# Altium schematic symbol library LM337.SchLib: 1 symbol
Pins are listed as number, name and electrical type; pins without a type are passive.

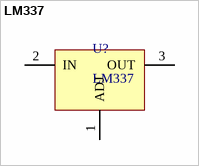
[diagram p0: symbol LM337]

## LM337
designator U?
Linear adjustable voltage/current regulator 1,5 A, 40 V; Потребление, Вт: 0; Назначение: Linear adjustable voltage/current regulator 1,5 A, 40 V; Наименование: LM337; ComponentLink1Description: Datasheet; ComponentLink1URL: https://static.chipdip.ru/lib/363/DOC011363165.pdf
footprint D2Pak
pins: 1 ADJ (power), 2 IN (power), 3 OUT (power)